# Altium footprint library SOP65P780X200-28N.PcbLib: 1 footprints
Each footprint in its own frame and in the unit in brackets; x right, y up, seen from the top. Pads: shape width x height; smd on the part's side, far side on the other; paste and mask are expansions set on the pad; w line width, h text height; cw(c..) or ccw(c..) is an arc to the next point about the centre after c.
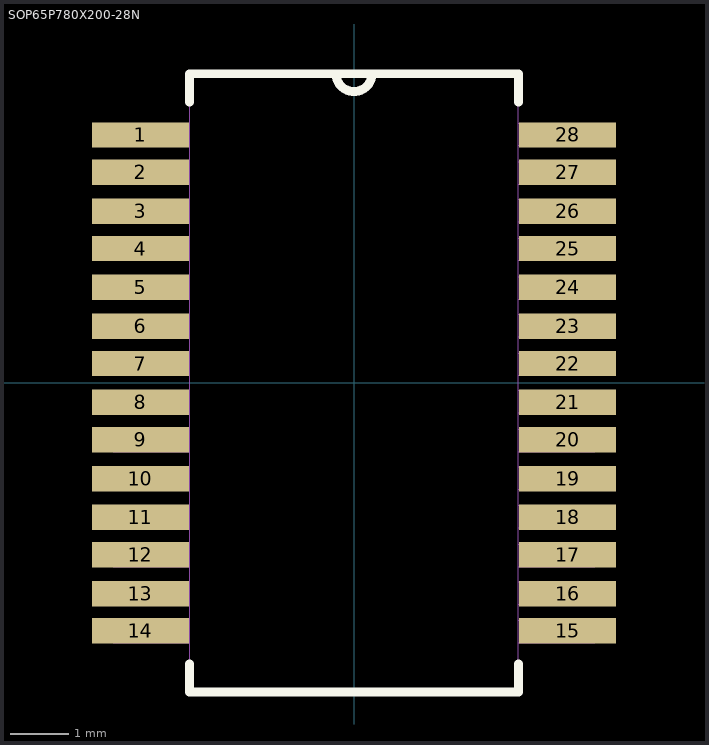
[diagram p0: the footprint, top view; thin cyan lines are the x and y axes]

## SOP65P780X200-28N [mil] "SOP + Pitch P + Lead Span Nominal X Height - #Pins"
height 78.74
pads (28):
  rect 65x17 smd: 1(-143,166) 2(-143,141) 3(-143,115) 4(-143,90) 5(-143,64) 6(-143,38) 7(-143,13) 8(-143,-13) 9(-143,-38) 10(-143,-64) 11(-143,-90) 12(-143,-115) 13(-143,-141) 14(-143,-166) 15(143,-166) 16(143,-141) 17(143,-115) 18(143,-90) 19(143,-64) 20(143,-38) 21(143,-13) 22(143,13) 23(143,38) 24(143,64) 25(143,90) 26(143,115) 27(143,141) 28(143,166)
Top Overlay:
  lines w6: -110,-188 -110,-207 110,-207 110,-188 ; -110,188 -110,207 -12,207 ; 110,188 110,207 12,207 ; -12,207 ccw(c0,207) 12,207 ; -12,207 12,207
Mechanical 1:
  lines w0: -12,207 ccw(c0,207) 12,207 ; -12,207 -110,207 -110,-207 110,-207 110,207 12,207 ; -12,207 12,207 ; -161,-174 -110,-174 -110,-159 -161,-159 -161,-174 ; -161,-148 -110,-148 -110,-133 -161,-133 -161,-148 ; -161,-123 -110,-123 -110,-108 -161,-108 -161,-123 ; -161,-97 -110,-97 -110,-82 -161,-82 -161,-97 ; -161,-71 -110,-71 -110,-56 -161,-56 -161,-71 ; -161,-46 -110,-46 -110,-31 -161,-31 -161,-46 ; -161,-20 -110,-20 -110,-5 -161,-5 -161,-20 ; -161,5 -110,5 -110,20 -161,20 -161,5 ; -161,31 -110,31 -110,46 -161,46 -161,31 ; -161,56 -110,56 -110,71 -161,71 -161,56 ; -161,82 -110,82 -110,97 -161,97 -161,82 ; -161,108 -110,108 -110,123 -161,123 -161,108 ; -161,133 -110,133 -110,148 -161,148 -161,133 ; -161,159 -110,159 -110,174 -161,174 -161,159 ; 110,-174 161,-174 161,-159 110,-159 110,-174 ; 110,-148 161,-148 161,-133 110,-133 110,-148 ; 110,-123 161,-123 161,-108 110,-108 110,-123 ; 110,-97 161,-97 161,-82 110,-82 110,-97 ; 110,-71 161,-71 161,-56 110,-56 110,-71 ; 110,-46 161,-46 161,-31 110,-31 110,-46 ; 110,-20 161,-20 161,-5 110,-5 110,-20 ; 110,5 161,5 161,20 110,20 110,5 ; 110,31 161,31 161,46 110,46 110,31 ; 110,56 161,56 161,71 110,71 110,56 ; 110,82 161,82 161,97 110,97 110,82 ; 110,108 161,108 161,123 110,123 110,108 ; 110,133 161,133 161,148 110,148 110,133 ; 110,159 161,159 161,174 110,174 110,159
3D body "SSOP28_MC.stp": height 78.86, standoff 0, extent -161.41,-206.69 161.43,206.7